# Altium footprint library Milling.PcbLib: 1 footprints
Each footprint in its own frame and in the unit in brackets; x right, y up, seen from the top. Pads: shape width x height; smd on the part's side, far side on the other; paste and mask are expansions set on the pad; w line width, h text height; cw(c..) or ccw(c..) is an arc to the next point about the centre after c.
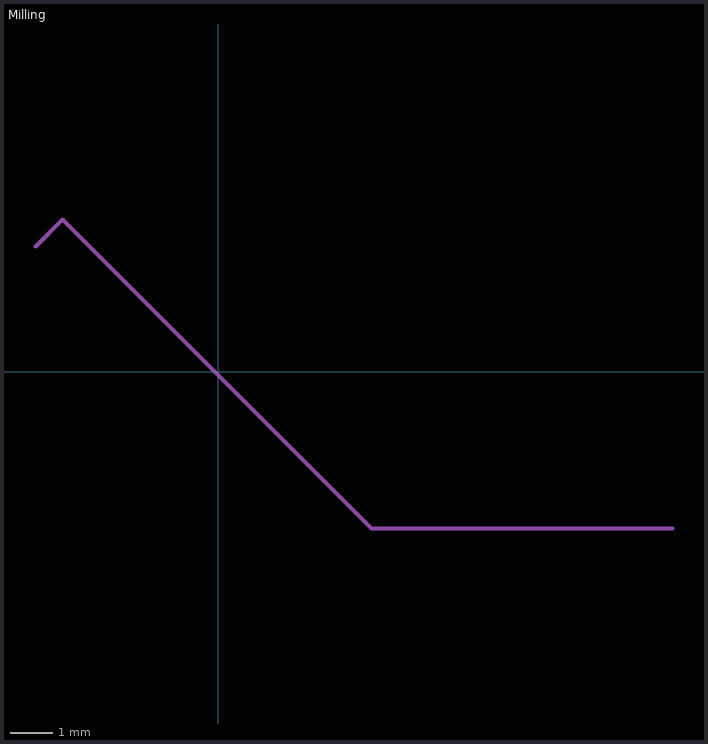
[diagram p0: the footprint, top view; thin cyan lines are the x and y axes]

## Milling [mm]
Mechanical 2:
  lines w0.1: -4.309,2.96 -3.674,3.595 3.629,-3.708 10.741,-3.708
  text "MILLING" at 8.89,-4.064 h1
  text "MILLING" at 4.454,-3.327 h1